# EAGLE library part JTAG (library Neel)
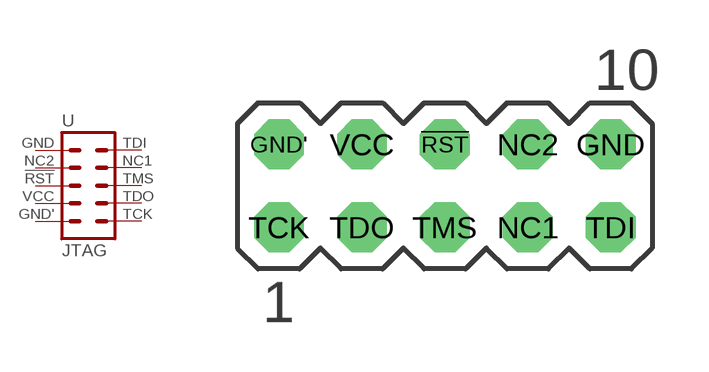
[diagram p22: symbol with the pads of MA05-2; footprint MA05-2]

Designator prefix -

## JTAG  [MA05-2]
!RST  6  pas
GND  10  pas
GND'  2  pas
NC1  7  pas
NC2  8  pas
TCK  1  pas
TDI  9  pas
TDO  3  pas
TMS  5  pas
VCC  4  pas

## Footprint MA05-2 (pad centres in mm)
PIN HEADER
drill 1.016 octagon: !RST 0,1.27; GND 5.08,1.27; GND' -5.08,1.27; NC1 2.54,-1.27; NC2 2.54,1.27; TCK -5.08,-1.27; TDI 5.08,-1.27; TDO -2.54,-1.27; TMS 0,-1.27; VCC -2.54,1.27